# Altium schematic symbol library iLabLogos.SchLib: 2 symbols
Pins are listed as number, name and electrical type; pins without a type are passive.

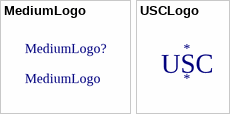
[diagram p0: symbols MediumLogo to USCLogo]

## MediumLogo
designator MediumLogo?  (mechanical)
footprint Large ILAB Logo
footprint Medium ILAB Logo

## USCLogo
designator *
footprint USC Logo Small
footprint Large ILAB Logo
footprint Medium ILAB Logo
text: USC